# Altium schematic symbol library Transistors.SchLib: 1 symbol
Pins are listed as number, name and electrical type; pins without a type are passive.

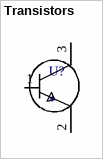
[diagram p0: symbol Transistors]

## Transistors
designator U?
NPN transistor
footprint BC817-40
pins: 1 Base, 2 Emi, 3 Co